# Altium integrated library Connectors_Library.IntLib: 22 symbols
Pins are listed as number, name and electrical type; pins without a type are passive.

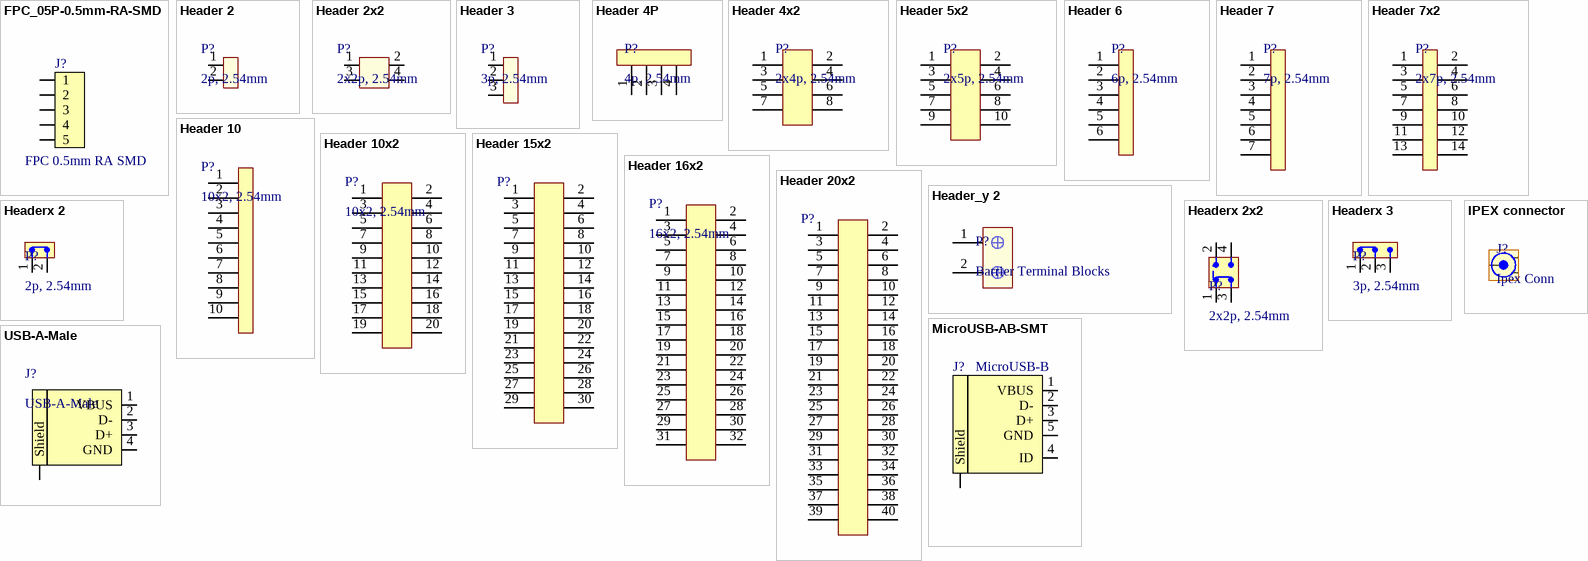
[diagram p0: symbols FPC_05P-0.5mm-RA-SMD to USB-A-Male]

## FPC_05P-0.5mm-RA-SMD
designator J?, comment FPC 0.5mm RA SMD
0.5mm FPC, 5P,Right Angle SMT,Double Contact,H=1.2mm,White, Tin plated; Part Number: FPC_05P-0.5mm-RA-SMD; Manufacturer: W-CON; Manufacturer Part Number: 5141-05RZDNWR01; 2nd source part number: WM9836CT-ND; Part number IPS: 00000007792; Artikkelnr Noca: 55010020; Artikkelnr Simpro: N.A.; Datasheet: \\hizz\pro\app9717\Datasheet\connectores\W-CON\5141-XXRZDNXX0X.pdf; Footprint Doc: FPC_05P-0.5mm-RA-SMD; LatestRevisionDate: 2016-04-21; Pin Count: 7; Publisher: Nordic Semiconductor; Published: 2015-06-22; Value: FPC 0.5mm RA SMD; Note: *; Supplier: Cabcon; Supplier part number: 5141-05RZDNWR01; 2nd source Supplier: Digi-Key
footprint FPC_05P-0.5mm-RA-SMD
pins: 1, 2, 3, 4, 5

## Header 2
designator P?, comment 2p, 2.54mm
Value: 2p, 2.54mm
footprint CONN2.54MM2P
pins: 1, 2

## Header 2x2
designator P?, comment 2x2p, 2.54mm
Value: 2x2p, 2.54mm
footprint CONN2.54MM2X2
footprint CONN2.54MM2x2_SMD_RA_X
pins: 1, 2, 3, 4

## Header 3
designator P?, comment 3p, 2.54mm
Value: 3p, 2.54mm
footprint CONN2.54MM3P
pins: 1, 2, 3

## Header 4P
designator P?, comment 4p, 2.54mm
Value: 4p, 2.54mm
footprint CONN2.54MM4P_RA_SMD
pins: 1, 2, 3, 4

## Header 4x2
designator P?, comment 2x4p, 2.54mm
Value: 2x4p, 2.54mm
footprint CONN2.54MM2X4
pins: 1, 2, 3, 4, 5, 6, 7, 8

## Header 5x2
designator P?, comment 2x5p, 2.54mm
Value: 2x5p, 2.54mm
footprint CONN2.54MM5X2
footprint CONN2.54MM2x5_SMD_RA_x
pins: 1, 2, 3, 4, 5, 6, 7, 8, 9, 10

## Header 6
designator P?, comment 6p, 2.54mm
common library; Value: 6p, 2.54mm
footprint CONN2.54MM6P
footprint CONNX2.54MM6P
pins: 1, 2, 3, 4, 5, 6

## Header 7
designator P?, comment 7p, 2.54mm
Value: 7p, 2.54mm
footprint CONN2.54MM7P
pins: 1, 2, 3, 4, 5, 6, 7

## Header 7x2
designator P?, comment 2x7p, 2.54mm
Value: 2x7p, 2.54mm
footprint CONN2.54MM7PX2
pins: 1, 2, 3, 4, 5, 6, 7, 8, 9, 10, 11, 12, 13, 14

## Header 10
designator P?, comment 10x2, 2.54mm
Value: 10x2, 2.54mm
footprint CONN2.54MM10
pins: 1, 2, 3, 4, 5, 6, 7, 8, 9, 10

## Header 10x2
designator P?, comment 10x2, 2.54mm
Value: 10x2, 2.54mm
footprint CONN2.54MM10X2
footprint CONN2.54MM2x10_SMD_RA_x
pins: 1, 2, 3, 4, 5, 6, 7, 8, 9, 10, 11, 12, 13, 14, 15, 16, 17, 18, 19, 20

## Header 15x2
designator P?  (value not drawn)
Value: *
footprint CONN2.54MM15x2_RA_SMD
footprint CONN1.27MM2x15_DIP
footprint CONN1.27MM2x15_FM_SMD
pins: 1, 2, 3, 4, 5, 6, 7, 8, 9, 10, 11, 12, 13, 14, 15, 16, 17, 18, 19, 20, 21, 22, 23, 24, 25, 26, 27, 28, 29, 30

## Header 16x2
designator P?, comment 16x2, 2.54mm
Value: 16x2, 2.54mm
footprint CONN2.54MM16X2
pins: 1, 2, 3, 4, 5, 6, 7, 8, 9, 10, 11, 12, 13, 14, 15, 16, 17, 18, 19, 20, 21, 22, 23, 24, 25, 26, 27, 28, 29, 30, 31, 32

## Header 20x2
designator P?  (value not drawn)
Value: *
footprint CONN1.27MM2x20_DIP
footprint CONN1.27MM2x20_FM_SMD
footprint CONN2.54MM20X2
pins: 1, 2, 3, 4, 5, 6, 7, 8, 9, 10, 11, 12, 13, 14, 15, 16, 17, 18, 19, 20, 21, 22, 23, 24, 25, 26, 27, 28, 29, 30, 31, 32, 33, 34, 35, 36, 37, 38, 39, 40

## Header_y 2
designator P?, comment Barrier Terminal Blocks
Name: Barrier Terminal Blocks; Link: https://thegioiic.com/
footprint CONN_2P_HB9500
pins: 1, 2

## Headerx 2
designator P?, comment 2p, 2.54mm
Value: 2p, 2.54mm
footprint CONN2.54MM2P
pins: 1, 2

## Headerx 2x2
designator P?, comment 2x2p, 2.54mm
Value: 2x2p, 2.54mm
footprint CONN2.54MM2X2
pins: 1, 2, 3, 4

## Headerx 3
designator P?, comment 3p, 2.54mm
Value: 3p, 2.54mm
footprint CONN2.54MM3P
pins: 1, 2, 3

## IPEX connector
designator J?, comment Ipex Conn
Hirose; MP: U.FL-R-SMT_01_; Note: Ipex Conn; MF: Hirose
footprint HRS_U.FL-R-SMT
pins: 1 GND, 2 GND, 3 SIG

## MicroUSB-AB-SMT
designator J?, comment MicroUSB-B
MicroUSB-B-SMT; Part Number: USB-Micro-B-RA-SMD-PiP; Manufacturer: Allen Creations Corp.; Manufacturer Part Number: AJU55-BS2111-L; 2nd source part number: 609-4616-1-ND; Part number IPS: 00000007790; Artikkelnr Noca: 55029020; Artikkelnr Simpro: N.A.; Datasheet: \\hizz\pro\app9717\Datasheet\connectores\Allen Creations Corp\AJU-211.pdf; Footprint Doc: USB-Micro-B-RA-SMD-PiP; LatestRevisionDate: 2016-04-21; Pin Count: 5; Publisher: Nordic Semiconductor; Published: 2014-10-07; Value: MicroUSB-B; Note: *; Supplier: Cabcon; Supplier part number: AJU55-BS2111-L; 2nd source Supplier: Digi-Key
footprint USB-Micro-B-RA-SMD-PiP
pins: 1 VBUS (power), 2 D-, 3 D+, 4 ID, 5 GND (power), 6 Shield (power)

## USB-A-Male
designator J?
Supplier: https://banlinhkien.vn/goods-938-usb-a-duc-smd-usb-a-s01.html; Using reference: https://hshop.vn/products/mach-chuyen-usb-uart-cp2102
footprint USB-A-DIP
pins: 1 VBUS (power), 2 D-, 3 D+, 4 GND (power), 5 Shield (power)